# EAGLE library part INA321 (library opamps)
INA321: Micropower instrumentation opamp (Burr-Brown) 2.7V-5.5V, 10pA bias 1mV offset, 500kHz UGF, 500nV/rt(Hz) noise
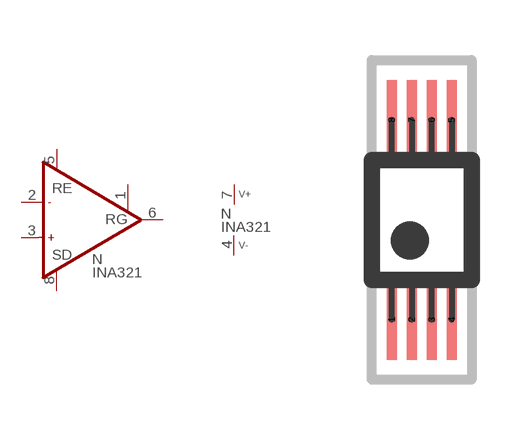
[diagram p242: symbol with the pads of MSOP08; footprint MSOP08]

Designator prefix N; gates P=V+- A=INA_4

## INA321  [MSOP08]
1  A:RG
2  A:OP-  in
3  A:OP+  in
4  P:V-  pwr
5  A:REF
6  A:OPO  out
7  P:V+  pwr
8  A:SD

## INA321S  [MSOP08]
Pads as for MSOP08

## Footprint MSOP08 (pad centres in mm)
MSOP-8
smd 0.25 x 2: 1 -0.75,-2.5; 2 -0.25,-2.5; 3 0.25,-2.5; 4 0.75,-2.5; 5 0.75,2.5; 6 0.25,2.5; 7 -0.25,2.5; 8 -0.75,2.5